# EAGLE library part LM2595 (library National-Semi)
LM2595 SIMPLE SWITCHER ® Power Converter 150 kHz 1A Step-Down Voltage Regulator
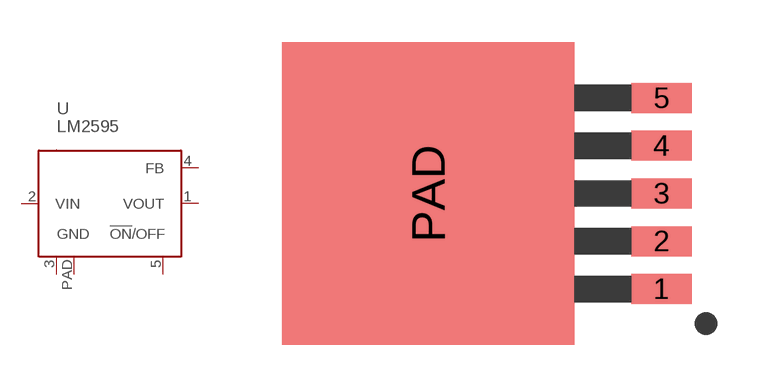
[diagram p1: symbol with the pads of TO-263-5; footprint TO-263-5]

Designator prefix U

## LM2595S  [TO-263-5]
1  VOUT
2  VIN
3  GND
4  FB
5  !ON!/OFF
PAD  PAD

## Footprint TO-263-5 (pad centres in mm)
smd 2.159 x 1.067: 1 8.445,-3.721; 2 8.445,-2.019; 3 8.445,-0.318; 4 8.445,1.384; 5 8.445,3.086
smd 10.414 x 10.795: PAD 0.127,-0.318